# EAGLE library part BTM-110-112 (library rayson__btm_bluetooth_modul)
The module is a Max.4dBm( Class2 ) module. Bluetooth standard Ver. 2.0 + EDR conformity. Internal 1.8V regulator Low current consumption : Hold,Sniff,Park,Deep sleep Mode 3.0v to 3.6v operation Support for up to seven slaves : SCO links,ACL links,Piconet<7> Interface: USB,UART&PCM(for voice CODEC) SPP firmware with AT command sets Small outline. 25 x 14.5 x 2.2 mm
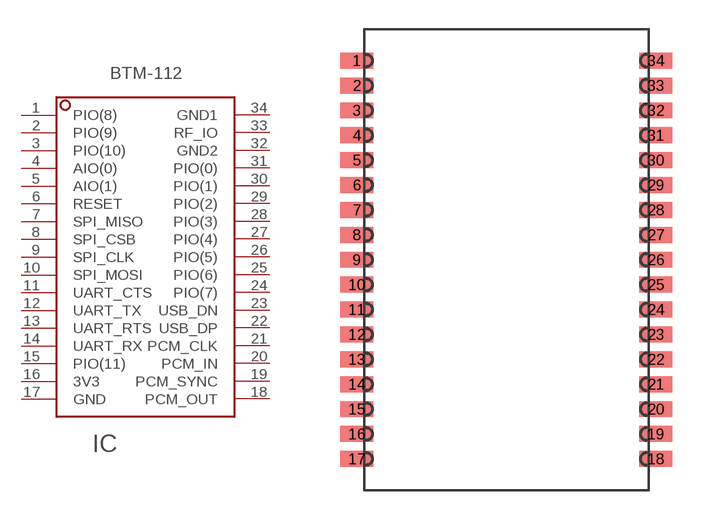
[diagram p0: symbol with the pads of BTM-112; footprint BTM-112]

Designator prefix IC

## BTM-110-112  [BTM-112]
1  PIO(8)
2  PIO(9)
3  PIO(10)
4  AIO(0)
5  AIO(1)
6  RESET  in
7  SPI_MISO
8  SPI_CSB
9  SPI_CLK
10  SPI_MOSI
11  UART_CTS  in
12  UART_TX  out
13  UART_RTS  out
14  UART_RX  in
15  PIO(11)
16  3V3  pwr
17  GND  pwr
18  PCM_OUT  out
19  PCM_SYNC  out
20  PCM_IN  in
21  PCM_CLK  in
22  USB_DP  out
23  USB_DN  out
24  PIO(7)
25  PIO(6)
26  PIO(5)
27  PIO(4)
28  PIO(3)
29  PIO(2)
30  PIO(1)
31  PIO(0)
32  GND2  pwr
33  RF_IO  in
34  GND1  pwr

## Footprint BTM-112 (pad centres in mm)
smd 1.676 x 0.813: 1 -7.62,10.16; 2 -7.62,8.89; 3 -7.62,7.62; 4 -7.62,6.35; 5 -7.62,5.08; 6 -7.62,3.81; 7 -7.62,2.54; 8 -7.62,1.27; 9 -7.62,0; 10 -7.62,-1.27; 11 -7.62,-2.54; 12 -7.62,-3.81; 13 -7.62,-5.08; 14 -7.62,-6.35; 15 -7.62,-7.62; 16 -7.62,-8.89; 17 -7.62,-10.16; 18 7.62,-10.16; 19 7.62,-8.89; 20 7.62,-7.62; 21 7.62,-6.35; 22 7.62,-5.08; 23 7.62,-3.81; 24 7.62,-2.54; 25 7.62,-1.27; 26 7.62,0; 27 7.62,1.27; 28 7.62,2.54; 29 7.62,3.81; 30 7.62,5.08; 31 7.62,6.35; 32 7.62,7.62; 33 7.62,8.89; 34 7.62,10.16